# Altium footprint library 0OHMR.PcbLib: 1 footprints
Each footprint in its own frame and in the unit in brackets; x right, y up, seen from the top. Pads: shape width x height; smd on the part's side, far side on the other; paste and mask are expansions set on the pad; w line width, h text height; cw(c..) or ccw(c..) is an arc to the next point about the centre after c.
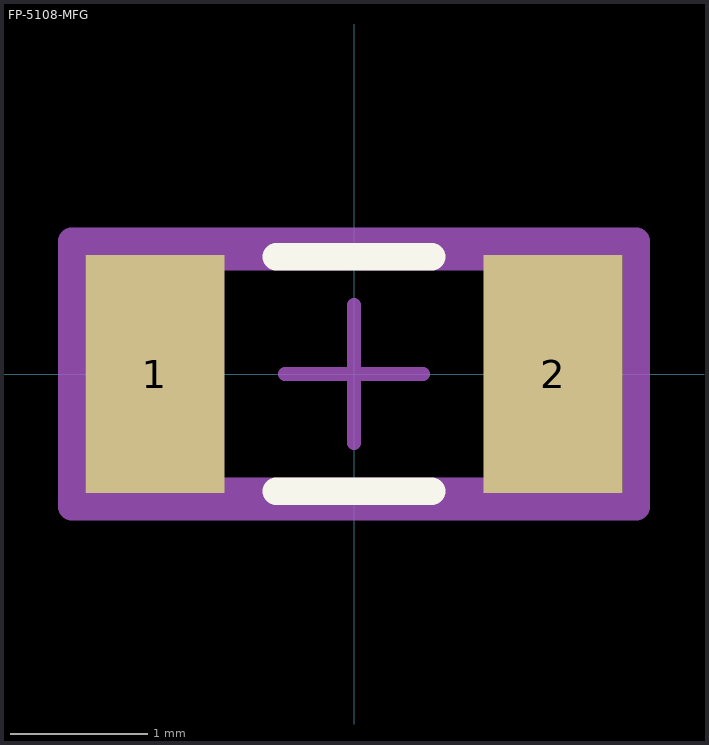
[diagram p0: the footprint, top view; thin cyan lines are the x and y axes]

## FP-5108-MFG [mm]
pads (2):
  rect 1.01x1.73 smd paste+0 mask+0: 1(-1.445,0) 2(1.445,0)
Top Overlay:
  lines w0.2: -0.565,-0.85 0.565,-0.85 ; -0.565,0.85 0.565,0.85
Top Assembly:
  lines w0.2: -2.05,-0.965 -2.05,0.965 2.05,0.965 2.05,-0.965 -2.05,-0.965
  text ".Designator" at 0,0.188 h1
Top 3D Body:
  lines w0.2: -1.525,-0.85 -1.525,0.85 1.525,0.85 1.525,-0.85 -1.525,-0.85
Top Courtyard:
  lines w0.2: -2.05,-0.965 -2.05,0.965 2.05,0.965 2.05,-0.965 -2.05,-0.965
Top Component Center:
  lines w0.1: -0.5,0 0.5,0 ; 0,-0.5 0,0.5
3D body "Res_Keystone_5108_eec.STEP": height 0.25, standoff 0, extent -2.05,-0.965 2.05,0.965